# Altium integrated library KPT-1608EC - Copy.IntLib: 1 symbol
Pins are listed as number, name and electrical type; pins without a type are passive.

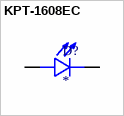
[diagram p0: symbol KPT-1608EC]

## KPT-1608EC
designator D?
Red Chip LED 1.6x0.8mm; MF: Kingbright; MP: KPT-1608EC; SnapEDA_Link: https://www.snapeda.com/parts/KPT-1608EC/Kingbright/view-part/?ref=snap; Package: Package; Value: *; Check_prices: https://www.snapeda.com/parts/KPT-1608EC/Kingbright/view-part/?ref=eda
footprint LED_KPT-1608EC
pins: A, C